# Altium schematic symbol library Fairchild.SchLib: 1 symbol
Pins are listed as number, name and electrical type; pins without a type are passive.

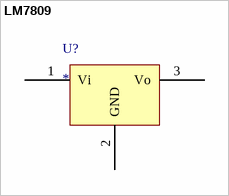
[diagram p0: symbol LM7809]

## LM7809
designator U?
Positive voltage regulator to 9V
footprint TO-220AB-3 (Transistor Outline)
pins: 1 Vi (power) "Voltage In", 2 GND (power) "Ground", 3 Vo (power) "Regulated voltage Out"